# Altium footprint library TH Capacitors.PcbLib: 22 footprints (part 2 of 2)
Each footprint in its own frame and in the unit in brackets; x right, y up, seen from the top. Pads: shape width x height; smd on the part's side, far side on the other; paste and mask are expansions set on the pad; w line width, h text height; cw(c..) or ccw(c..) is an arc to the next point about the centre after c.
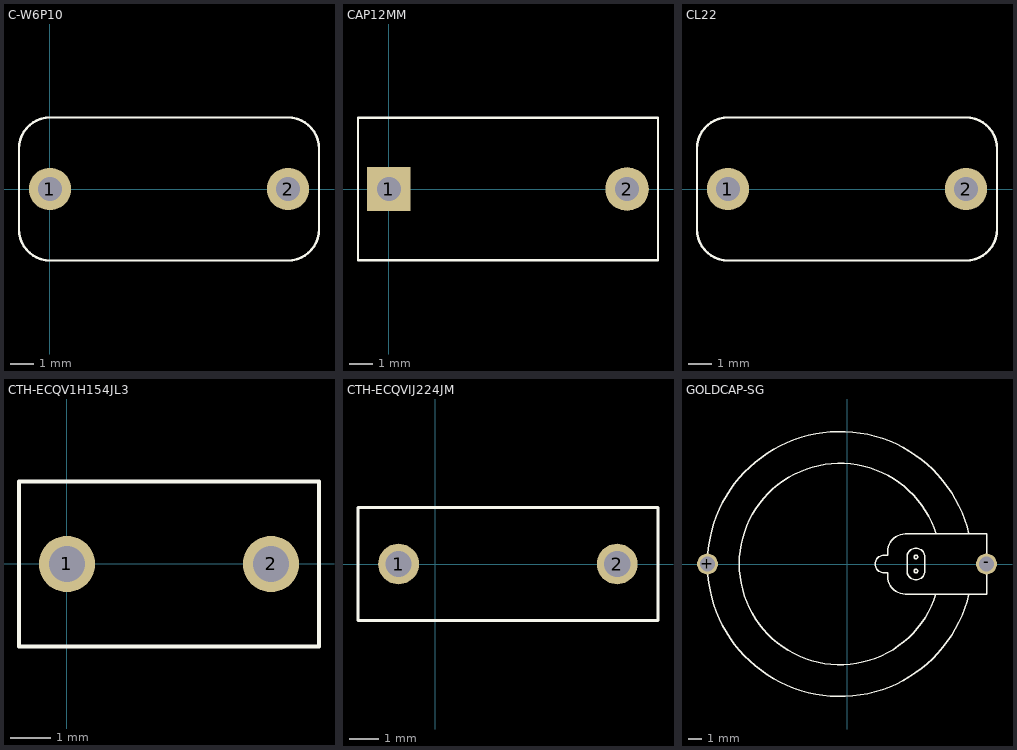
[diagram p1: the footprints below, top view; thin cyan lines are the x and y axes]

## C-W6P10 [mil]
pads (2):
  round 70 hole 40: 1(0,0) 2(393.7,0)
Top Overlay:
  lines w4: -51.18,-67 ccw(c0,-67) 0.14,-118.18 393.56,-118.18 ccw(c393.7,-67) 444.88,-67 444.88,67 ccw(c393.7,67) 393.56,118.18 0.14,118.18 ccw(c0,67) -51.18,67 -51.18,-67

## CAP12MM [mil]
pads (2):
  rect 72x72 hole 40: 1(0,0)
  round 72 hole 40: 2(393.7,0)
Top Overlay:
  lines w4: -51.15,-118 444.85,-118 444.85,118 -51.15,118 -51.15,-118

## CL22 [mil]
pads (2):
  round 70 hole 40: 1(98.42,0) 2(492.13,0)
Top Overlay:
  lines w4: 47.24,-67 ccw(c98.42,-67) 98.56,-118.18 491.99,-118.18 ccw(c492.13,-67) 543.31,-67 543.31,67 ccw(c492.13,67) 491.99,118.18 98.56,118.18 ccw(c98.42,67) 47.24,67 47.24,-67

## CTH-ECQV1H154JL3 [mm]
pads (2):
  round 1.4 hole 0.9: 1(0,0) 2(5.08,0)
Top Overlay:
  lines w0.102: 6.274,-2.052 6.274,2.052 ; 6.274,-2.052 -1.194,-2.052 -1.194,2.052 6.274,2.052 ; 6.274,-2.052 6.274,2.052

## CTH-ECQVIJ224JM [mm]
pads (2):
  round 1.4 hole 0.9: 1(-1.25,0) 2(6.25,0)
Top Overlay:
  lines w0.102: 7.645,-1.93 -2.642,-1.93 -2.642,1.93 7.645,1.93 ; 7.65,-1.928 7.65,1.928

## GOLDCAP-SG [mm]
pads (2):
  round 1.5 hole 1.1: +(-10.033,0) -(10.033,0)
Top Overlay:
  circle w0.102: c4.953,0.508 r0.127
  circle w0.102: c4.953,-0.508 r0.127
  lines w0.102: 6.397,-2.174 cw(c-0.508,0) 6.408,2.138 ; 8.769,-2.16 cw(c-0.508,0) 8.769,2.16 ; 2.032,0 cw(c2.667,0) 2.667,0.635 2.921,0.635 2.921,0.889 cw(c4.191,0.889) 4.191,2.159 10.033,2.159 10.033,0 10.033,-2.159 4.191,-2.159 cw(c4.191,-0.889) 2.921,-0.889 2.921,-0.635 2.667,-0.635 cw(c2.667,0) 2.032,0 ; 4.318,-0.508 ccw(c4.953,-0.508) 4.953,-1.143 ccw(c4.953,-0.508) 5.588,-0.508 5.588,0 5.588,0.508 ccw(c4.953,0.508) 4.953,1.143 ccw(c4.953,0.508) 4.318,0.508 4.318,0 4.318,-0.508